# EAGLE library part LT1462 (library eric-custom)
LT1462 dual micropower JEFT op-amp
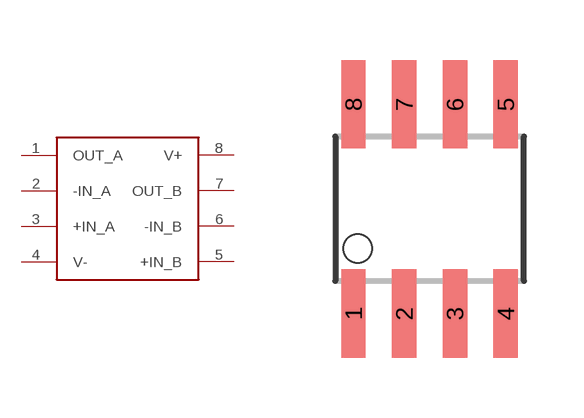
[diagram p6: symbol with the pads of SO08; footprint SO08]

Designator prefix -

## LT1462  [SO08]
1  OUT_A
2  -IN_A
3  +IN_A
4  V-
5  +IN_B
6  -IN_B
7  OUT_B
8  V+

## Footprint SO08 (pad centres in mm)
Small Outline Package
smd 0.61 x 2.21: 1 -1.905,-2.616; 2 -0.635,-2.616; 3 0.635,-2.616; 4 1.905,-2.616; 5 1.905,2.616; 6 0.635,2.616; 7 -0.635,2.616; 8 -1.905,2.616